# Altium integrated library Linear Technology Power Management System Supervisor, Monitor and Control.IntLib: 1611 symbols (part 36 of 100)
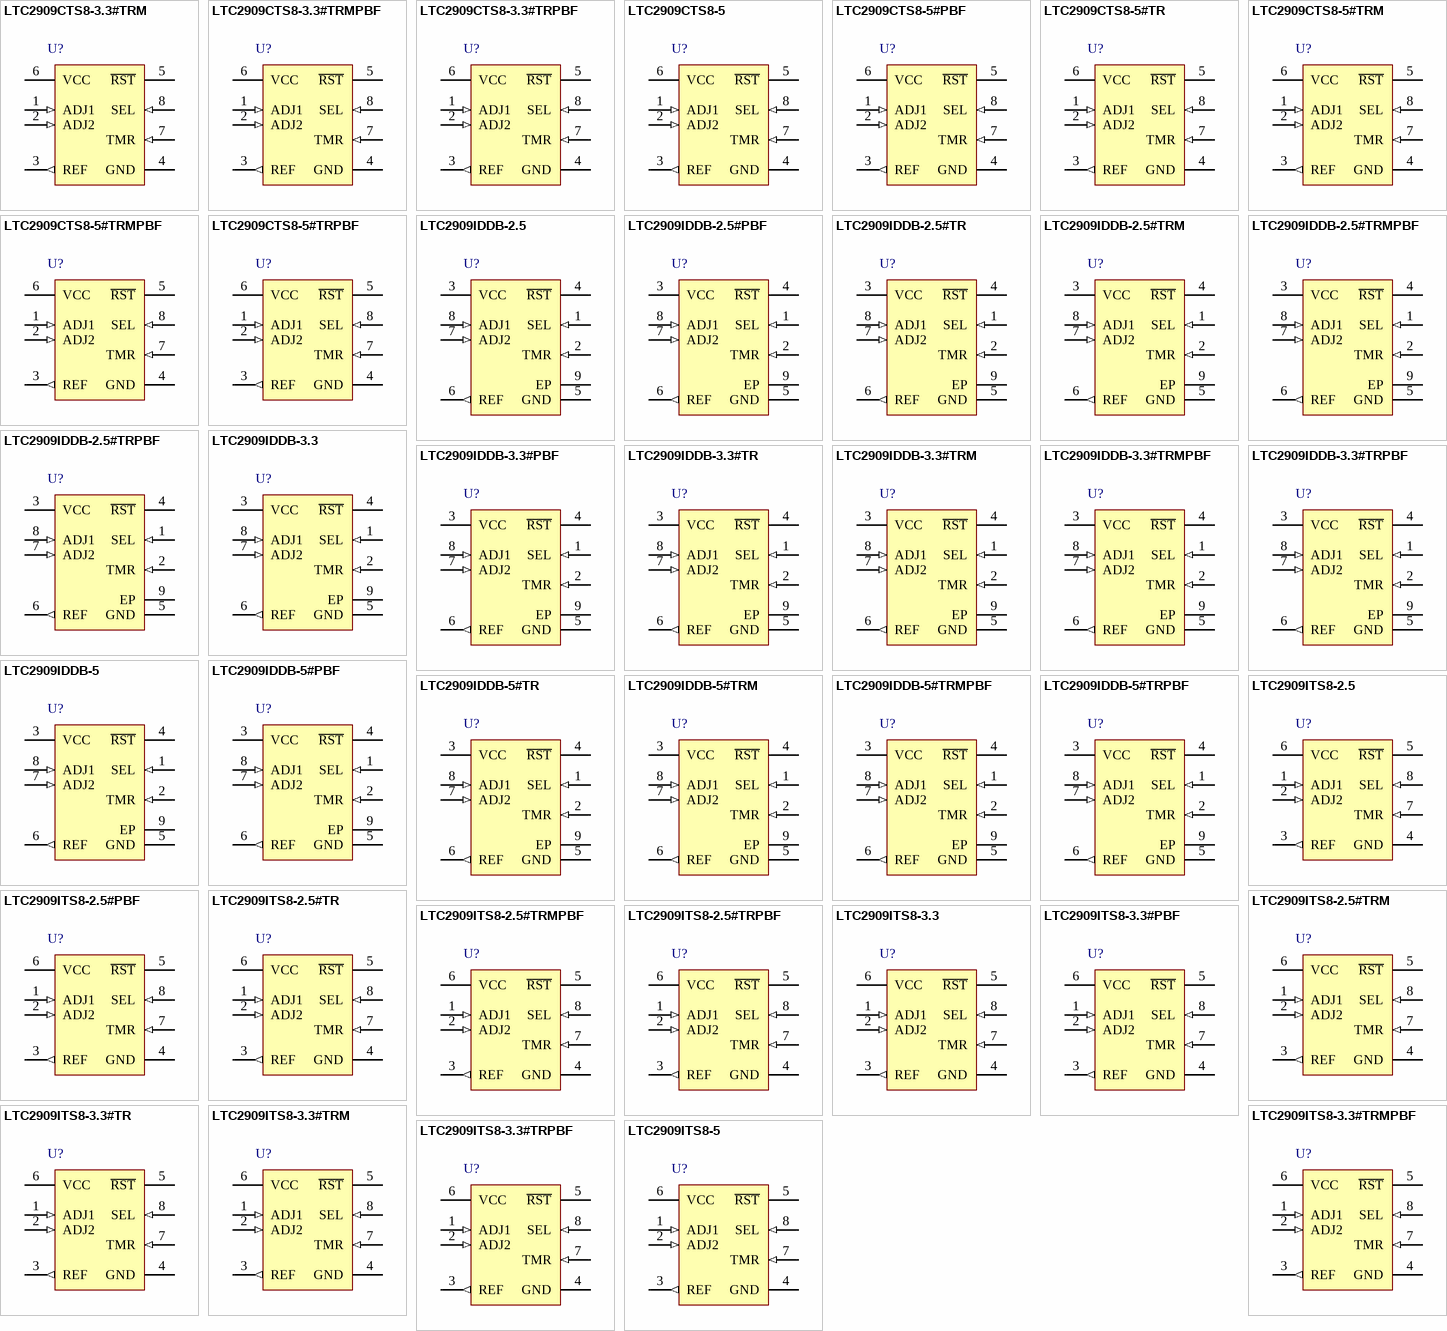
[diagram p80: symbols LTC2909CTS8-3.3#TRM to LTC2909ITS8-5]

## LTC2909ITS8-5
designator U?
Precision Triple / Dual Input UV, OV and Negative Voltage Monitor, 8-pin SOT23 (TS8-8), -40 to 85 degC; Manufacturer: Linear Technology; PartNumber: LTC2909ITS8-5; Number of Supplies(#): 3; DatasheetVersion: Rev. B; PackageVersion: Rev. A, 08/2010; PackageReference: TS8-8; PackageDescription: 8-Pin Plastic TSOT-23, Body 2.9 x 1.63 mm, Pitch 0.65 mm; RoHS: FALSE; Mounting Technology: Surface Mount; Code_JEDEC: MO-193; ComponentLink1Description: Manufacturer URL; ComponentLink1URL: http://www.linear.com/; ComponentLink2Description: Datasheet; ComponentLink2URL: http://cds.linear.com/docs/en/datasheet/2909fb.pdf; ComponentLink3Description: Package Specification; ComponentLink3URL: http://cds.linear.com/docs/en/packaging/SOT_8_05-08-1637.pdf
footprint LT-TS8-8-TSOT-23_V (SOT23, 8-Leads, Body 2.9x1.75mm, Pitch 0.65mm)
pins: 1 ADJ1 (in) "Adjustable Voltage Input 1. Input to voltage monitor comparator 1 (0.5V nominal threshold). The polarity of the input is selected by the state of the SEL pin (refer to Table 1). Tie to REF if unused (with SEL = VCC or Open).", 2 ADJ2 (in) "Adjustable Voltage Input 2. Input to voltage monitor comparator 2 (0.5V nominal threshold). The polarity of the input is selected by the state of the SEL pin (refer to Table 1). Tie to GND if unused (with SEL = GND or Open).", 3 REF (out) "Buffered Reference Output. 1V nominal reference used for the offset of negative-monitoring applications. The buffered reference can source and sink 1mA. The reference can drive a capacitive load of up to 1000pF. Larger (See Datasheet)", 4 GND (power) "Device Ground.", 5 ~{RST} (oc) "Open-Drain Inverted Reset Logic Output. Asserts low when any positive polarity input voltage is below threshold or any negative polarity input voltage is above threshold or VCC is below UVLO threshold. Held low for a timeout (See Datasheet)", 6 VCC (power) "Power Supply. Bypass this pin to ground with a 0.1uF (or greater) capacitor. Operates as a direct supply input for voltages up to 6V. Operates as a shunt regulator for supply voltages greater than 6V and should have a (See Datasheet)", 7 TMR (in) "Reset Timeout Control. Attach an external capacitor (CTMR) to GND to set a reset timeout of 9ms/nF. A low leakage ceramic capacitor is recommended for timer accuracy. Capacitors larger than 1uF (9 second timeout) are not (See Datasheet)", 8 SEL (in) "Input Polarity Select Three-State Input. Connect to VCC, GND or leave unconnected in open state to select one of three possible input polarity combinations (refer to Table 1)."

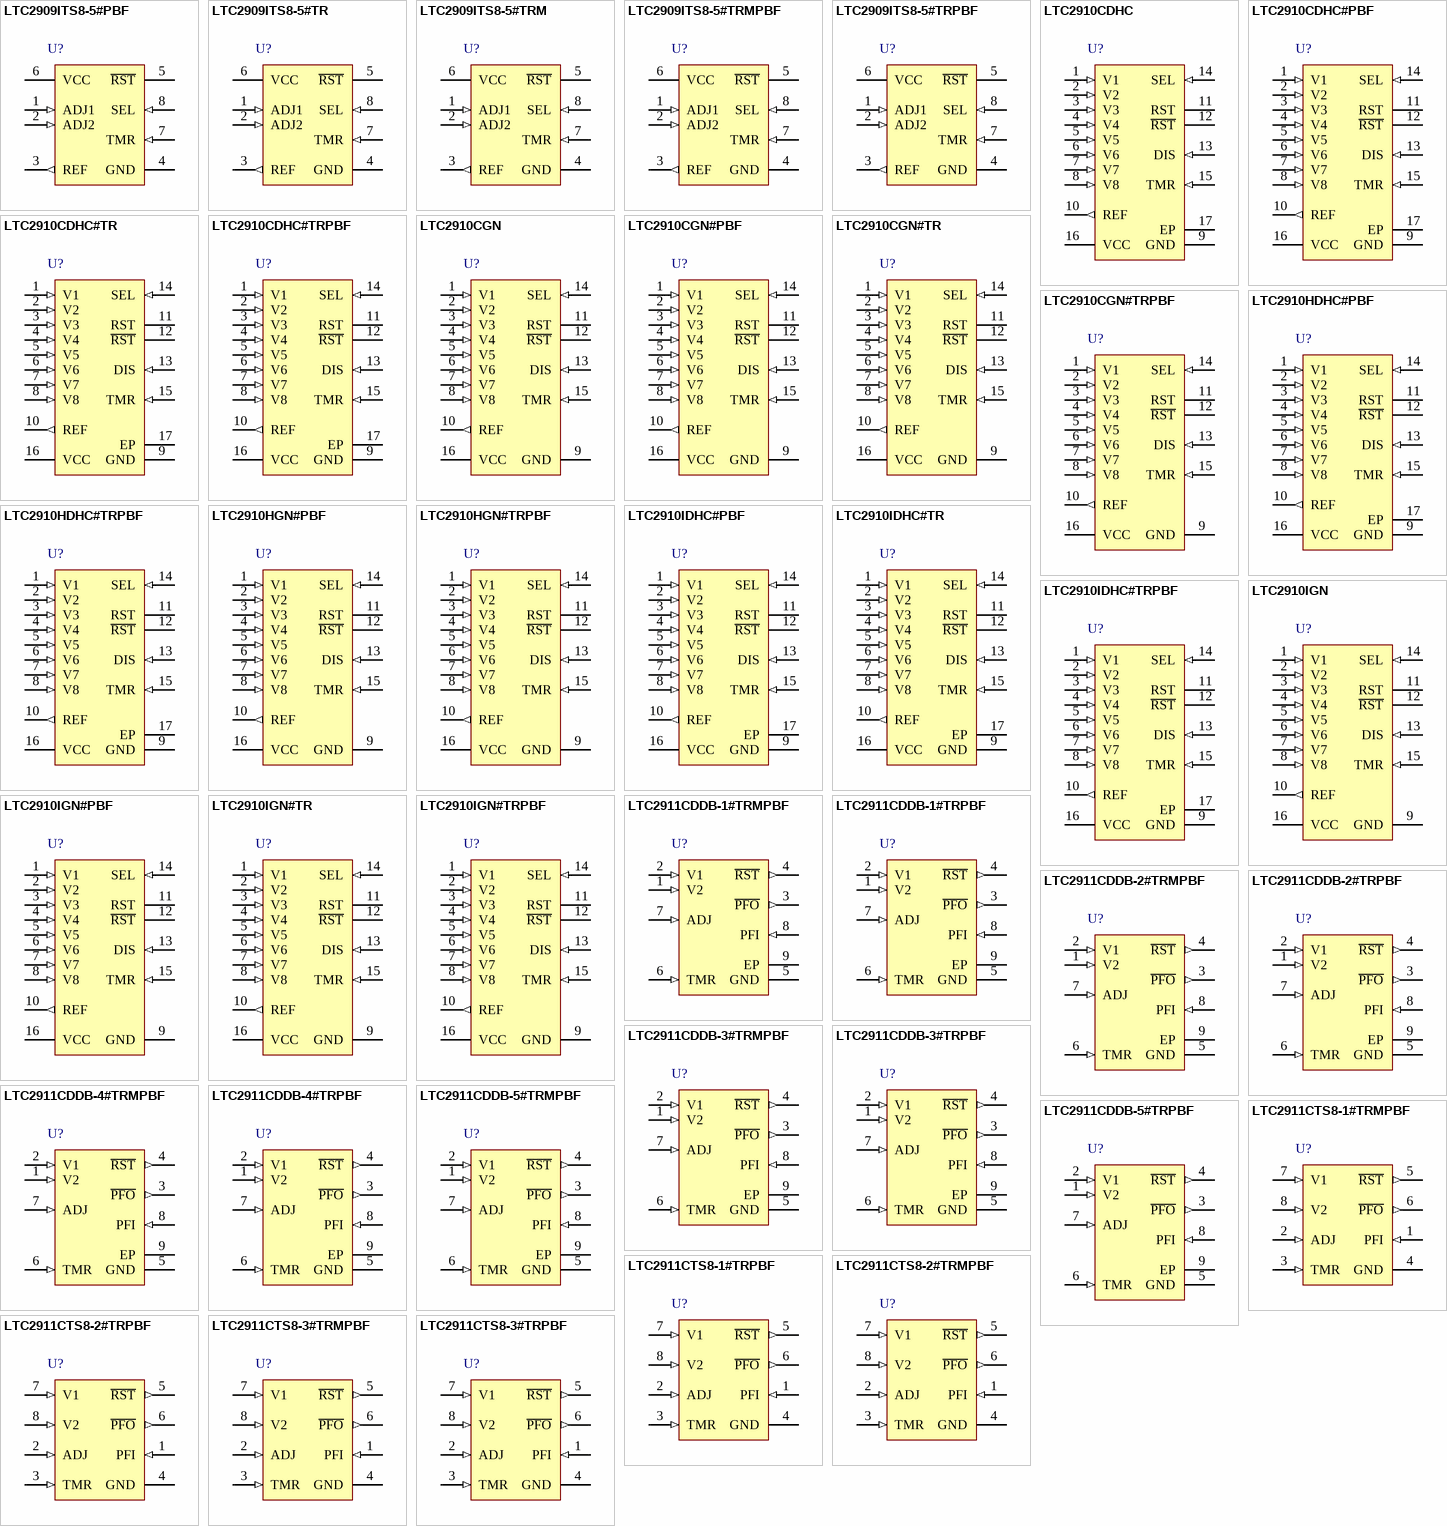
[diagram p18: symbols LTC2909ITS8-5#PBF to LTC2911CTS8-3#TRPBF]

## LTC2909ITS8-5#PBF
designator U?
Precision Triple / Dual Input UV, OV and Negative Voltage Monitor, 8-pin SOT23 (TS8-8), -40 to 85 degC, Pb-Free; Manufacturer: Linear Technology; PartNumber: LTC2909ITS8-5#PBF; Number of Supplies(#): 3; DatasheetVersion: Rev. B; PackageVersion: Rev. A, 08/2010; PackageReference: TS8-8; PackageDescription: 8-Pin Plastic TSOT-23, Body 2.9 x 1.63 mm, Pitch 0.65 mm; Supplier 1: Farnell; Supplier Part Number 1: 2295413; Supplier 2: Newark; Supplier Part Number 2: 69W6140; Supplier 3: Newark; Supplier Part Number 3: 25T5467; RoHS: TRUE; Mounting Technology: Surface Mount; Code_JEDEC: MO-193; ComponentLink1Description: Manufacturer URL; ComponentLink1URL: http://www.linear.com/; ComponentLink2Description: Datasheet; ComponentLink2URL: http://cds.linear.com/docs/en/datasheet/2909fb.pdf; ComponentLink3Description: Package Specification; ComponentLink3URL: http://cds.linear.com/docs/en/packaging/SOT_8_05-08-1637.pdf
footprint LT-TS8-8-TSOT-23_V (SOT23, 8-Leads, Body 2.9x1.75mm, Pitch 0.65mm)
pins: 1 ADJ1 (in) "Adjustable Voltage Input 1. Input to voltage monitor comparator 1 (0.5V nominal threshold). The polarity of the input is selected by the state of the SEL pin (refer to Table 1). Tie to REF if unused (with SEL = VCC or Open).", 2 ADJ2 (in) "Adjustable Voltage Input 2. Input to voltage monitor comparator 2 (0.5V nominal threshold). The polarity of the input is selected by the state of the SEL pin (refer to Table 1). Tie to GND if unused (with SEL = GND or Open).", 3 REF (out) "Buffered Reference Output. 1V nominal reference used for the offset of negative-monitoring applications. The buffered reference can source and sink 1mA. The reference can drive a capacitive load of up to 1000pF. Larger (See Datasheet)", 4 GND (power) "Device Ground.", 5 ~{RST} (oc) "Open-Drain Inverted Reset Logic Output. Asserts low when any positive polarity input voltage is below threshold or any negative polarity input voltage is above threshold or VCC is below UVLO threshold. Held low for a timeout (See Datasheet)", 6 VCC (power) "Power Supply. Bypass this pin to ground with a 0.1uF (or greater) capacitor. Operates as a direct supply input for voltages up to 6V. Operates as a shunt regulator for supply voltages greater than 6V and should have a (See Datasheet)", 7 TMR (in) "Reset Timeout Control. Attach an external capacitor (CTMR) to GND to set a reset timeout of 9ms/nF. A low leakage ceramic capacitor is recommended for timer accuracy. Capacitors larger than 1uF (9 second timeout) are not (See Datasheet)", 8 SEL (in) "Input Polarity Select Three-State Input. Connect to VCC, GND or leave unconnected in open state to select one of three possible input polarity combinations (refer to Table 1)."

## LTC2909ITS8-5#TR
designator U?
Precision Triple / Dual Input UV, OV and Negative Voltage Monitor, 8-pin SOT23 (TS8-8), -40 to 85 degC, Tape and Reel; Manufacturer: Linear Technology; PartNumber: LTC2909ITS8-5#TR; Number of Supplies(#): 3; DatasheetVersion: Rev. B; PackageVersion: Rev. A, 08/2010; PackageReference: TS8-8; PackageDescription: 8-Pin Plastic TSOT-23, Body 2.9 x 1.63 mm, Pitch 0.65 mm; Supplier 1: Newark; Supplier Part Number 1: 56M6815; Packing: Tape and Reel; RoHS: FALSE; Mounting Technology: Surface Mount; Code_JEDEC: MO-193; ComponentLink1Description: Manufacturer URL; ComponentLink1URL: http://www.linear.com/; ComponentLink2Description: Datasheet; ComponentLink2URL: http://cds.linear.com/docs/en/datasheet/2909fb.pdf; ComponentLink3Description: Package Specification; ComponentLink3URL: http://cds.linear.com/docs/en/packaging/SOT_8_05-08-1637.pdf
footprint LT-TS8-8-TSOT-23_V (SOT23, 8-Leads, Body 2.9x1.75mm, Pitch 0.65mm)
pins: 1 ADJ1 (in) "Adjustable Voltage Input 1. Input to voltage monitor comparator 1 (0.5V nominal threshold). The polarity of the input is selected by the state of the SEL pin (refer to Table 1). Tie to REF if unused (with SEL = VCC or Open).", 2 ADJ2 (in) "Adjustable Voltage Input 2. Input to voltage monitor comparator 2 (0.5V nominal threshold). The polarity of the input is selected by the state of the SEL pin (refer to Table 1). Tie to GND if unused (with SEL = GND or Open).", 3 REF (out) "Buffered Reference Output. 1V nominal reference used for the offset of negative-monitoring applications. The buffered reference can source and sink 1mA. The reference can drive a capacitive load of up to 1000pF. Larger (See Datasheet)", 4 GND (power) "Device Ground.", 5 ~{RST} (oc) "Open-Drain Inverted Reset Logic Output. Asserts low when any positive polarity input voltage is below threshold or any negative polarity input voltage is above threshold or VCC is below UVLO threshold. Held low for a timeout (See Datasheet)", 6 VCC (power) "Power Supply. Bypass this pin to ground with a 0.1uF (or greater) capacitor. Operates as a direct supply input for voltages up to 6V. Operates as a shunt regulator for supply voltages greater than 6V and should have a (See Datasheet)", 7 TMR (in) "Reset Timeout Control. Attach an external capacitor (CTMR) to GND to set a reset timeout of 9ms/nF. A low leakage ceramic capacitor is recommended for timer accuracy. Capacitors larger than 1uF (9 second timeout) are not (See Datasheet)", 8 SEL (in) "Input Polarity Select Three-State Input. Connect to VCC, GND or leave unconnected in open state to select one of three possible input polarity combinations (refer to Table 1)."

## LTC2909ITS8-5#TRM
designator U?
Precision Triple / Dual Input UV, OV and Negative Voltage Monitor, 8-pin SOT23 (TS8-8), -40 to 85 degC, Mini Tape and Reel; Manufacturer: Linear Technology; PartNumber: LTC2909ITS8-5#TRM; Number of Supplies(#): 3; DatasheetVersion: Rev. B; PackageVersion: Rev. A, 08/2010; PackageReference: TS8-8; PackageDescription: 8-Pin Plastic TSOT-23, Body 2.9 x 1.63 mm, Pitch 0.65 mm; Packing: Mini Tape and Reel; RoHS: FALSE; Mounting Technology: Surface Mount; Code_JEDEC: MO-193; ComponentLink1Description: Manufacturer URL; ComponentLink1URL: http://www.linear.com/; ComponentLink2Description: Datasheet; ComponentLink2URL: http://cds.linear.com/docs/en/datasheet/2909fb.pdf; ComponentLink3Description: Package Specification; ComponentLink3URL: http://cds.linear.com/docs/en/packaging/SOT_8_05-08-1637.pdf
footprint LT-TS8-8-TSOT-23_V (SOT23, 8-Leads, Body 2.9x1.75mm, Pitch 0.65mm)
pins: 1 ADJ1 (in) "Adjustable Voltage Input 1. Input to voltage monitor comparator 1 (0.5V nominal threshold). The polarity of the input is selected by the state of the SEL pin (refer to Table 1). Tie to REF if unused (with SEL = VCC or Open).", 2 ADJ2 (in) "Adjustable Voltage Input 2. Input to voltage monitor comparator 2 (0.5V nominal threshold). The polarity of the input is selected by the state of the SEL pin (refer to Table 1). Tie to GND if unused (with SEL = GND or Open).", 3 REF (out) "Buffered Reference Output. 1V nominal reference used for the offset of negative-monitoring applications. The buffered reference can source and sink 1mA. The reference can drive a capacitive load of up to 1000pF. Larger (See Datasheet)", 4 GND (power) "Device Ground.", 5 ~{RST} (oc) "Open-Drain Inverted Reset Logic Output. Asserts low when any positive polarity input voltage is below threshold or any negative polarity input voltage is above threshold or VCC is below UVLO threshold. Held low for a timeout (See Datasheet)", 6 VCC (power) "Power Supply. Bypass this pin to ground with a 0.1uF (or greater) capacitor. Operates as a direct supply input for voltages up to 6V. Operates as a shunt regulator for supply voltages greater than 6V and should have a (See Datasheet)", 7 TMR (in) "Reset Timeout Control. Attach an external capacitor (CTMR) to GND to set a reset timeout of 9ms/nF. A low leakage ceramic capacitor is recommended for timer accuracy. Capacitors larger than 1uF (9 second timeout) are not (See Datasheet)", 8 SEL (in) "Input Polarity Select Three-State Input. Connect to VCC, GND or leave unconnected in open state to select one of three possible input polarity combinations (refer to Table 1)."

## LTC2909ITS8-5#TRMPBF
designator U?
Precision Triple / Dual Input UV, OV and Negative Voltage Monitor, 8-pin SOT23 (TS8-8), -40 to 85 degC, Pb-Free, Mini Tape and Reel; Manufacturer: Linear Technology; PartNumber: LTC2909ITS8-5#TRMPBF; Number of Supplies(#): 3; DatasheetVersion: Rev. B; PackageVersion: Rev. A, 08/2010; PackageReference: TS8-8; PackageDescription: 8-Pin Plastic TSOT-23, Body 2.9 x 1.63 mm, Pitch 0.65 mm; Supplier 1: Digi-Key; Supplier Part Number 1: LTC2909ITS8-5#TRMPBFTR-ND; Supplier 2: Digi-Key; Supplier Part Number 2: LTC2909ITS8-5#TRMPBFCT-ND; Supplier 3: Digi-Key; Supplier Part Number 3: LTC2909ITS8-5#TRMPBFDKR-ND; Supplier 4: Newark; Supplier Part Number 4: 56M6817; Packing: Mini Tape and Reel; RoHS: TRUE; Mounting Technology: Surface Mount; Code_JEDEC: MO-193; ComponentLink1Description: Manufacturer URL; ComponentLink1URL: http://www.linear.com/; ComponentLink2Description: Datasheet; ComponentLink2URL: http://cds.linear.com/docs/en/datasheet/2909fb.pdf; ComponentLink3Description: Package Specification; ComponentLink3URL: http://cds.linear.com/docs/en/packaging/SOT_8_05-08-1637.pdf
footprint LT-TS8-8-TSOT-23_V (SOT23, 8-Leads, Body 2.9x1.75mm, Pitch 0.65mm)
pins: 1 ADJ1 (in) "Adjustable Voltage Input 1. Input to voltage monitor comparator 1 (0.5V nominal threshold). The polarity of the input is selected by the state of the SEL pin (refer to Table 1). Tie to REF if unused (with SEL = VCC or Open).", 2 ADJ2 (in) "Adjustable Voltage Input 2. Input to voltage monitor comparator 2 (0.5V nominal threshold). The polarity of the input is selected by the state of the SEL pin (refer to Table 1). Tie to GND if unused (with SEL = GND or Open).", 3 REF (out) "Buffered Reference Output. 1V nominal reference used for the offset of negative-monitoring applications. The buffered reference can source and sink 1mA. The reference can drive a capacitive load of up to 1000pF. Larger (See Datasheet)", 4 GND (power) "Device Ground.", 5 ~{RST} (oc) "Open-Drain Inverted Reset Logic Output. Asserts low when any positive polarity input voltage is below threshold or any negative polarity input voltage is above threshold or VCC is below UVLO threshold. Held low for a timeout (See Datasheet)", 6 VCC (power) "Power Supply. Bypass this pin to ground with a 0.1uF (or greater) capacitor. Operates as a direct supply input for voltages up to 6V. Operates as a shunt regulator for supply voltages greater than 6V and should have a (See Datasheet)", 7 TMR (in) "Reset Timeout Control. Attach an external capacitor (CTMR) to GND to set a reset timeout of 9ms/nF. A low leakage ceramic capacitor is recommended for timer accuracy. Capacitors larger than 1uF (9 second timeout) are not (See Datasheet)", 8 SEL (in) "Input Polarity Select Three-State Input. Connect to VCC, GND or leave unconnected in open state to select one of three possible input polarity combinations (refer to Table 1)."

## LTC2909ITS8-5#TRPBF
designator U?
Precision Triple / Dual Input UV, OV and Negative Voltage Monitor, 8-pin SOT23 (TS8-8), -40 to 85 degC, Pb-Free, Tape and Reel; Manufacturer: Linear Technology; PartNumber: LTC2909ITS8-5#TRPBF; Number of Supplies(#): 3; DatasheetVersion: Rev. B; PackageVersion: Rev. A, 08/2010; PackageReference: TS8-8; PackageDescription: 8-Pin Plastic TSOT-23, Body 2.9 x 1.63 mm, Pitch 0.65 mm; Supplier 1: Digi-Key; Supplier Part Number 1: LTC2909ITS8-5#TRPBF-ND; Packing: Tape and Reel; RoHS: TRUE; Mounting Technology: Surface Mount; Code_JEDEC: MO-193; ComponentLink1Description: Manufacturer URL; ComponentLink1URL: http://www.linear.com/; ComponentLink2Description: Datasheet; ComponentLink2URL: http://cds.linear.com/docs/en/datasheet/2909fb.pdf; ComponentLink3Description: Package Specification; ComponentLink3URL: http://cds.linear.com/docs/en/packaging/SOT_8_05-08-1637.pdf
footprint LT-TS8-8-TSOT-23_V (SOT23, 8-Leads, Body 2.9x1.75mm, Pitch 0.65mm)
pins: 1 ADJ1 (in) "Adjustable Voltage Input 1. Input to voltage monitor comparator 1 (0.5V nominal threshold). The polarity of the input is selected by the state of the SEL pin (refer to Table 1). Tie to REF if unused (with SEL = VCC or Open).", 2 ADJ2 (in) "Adjustable Voltage Input 2. Input to voltage monitor comparator 2 (0.5V nominal threshold). The polarity of the input is selected by the state of the SEL pin (refer to Table 1). Tie to GND if unused (with SEL = GND or Open).", 3 REF (out) "Buffered Reference Output. 1V nominal reference used for the offset of negative-monitoring applications. The buffered reference can source and sink 1mA. The reference can drive a capacitive load of up to 1000pF. Larger (See Datasheet)", 4 GND (power) "Device Ground.", 5 ~{RST} (oc) "Open-Drain Inverted Reset Logic Output. Asserts low when any positive polarity input voltage is below threshold or any negative polarity input voltage is above threshold or VCC is below UVLO threshold. Held low for a timeout (See Datasheet)", 6 VCC (power) "Power Supply. Bypass this pin to ground with a 0.1uF (or greater) capacitor. Operates as a direct supply input for voltages up to 6V. Operates as a shunt regulator for supply voltages greater than 6V and should have a (See Datasheet)", 7 TMR (in) "Reset Timeout Control. Attach an external capacitor (CTMR) to GND to set a reset timeout of 9ms/nF. A low leakage ceramic capacitor is recommended for timer accuracy. Capacitors larger than 1uF (9 second timeout) are not (See Datasheet)", 8 SEL (in) "Input Polarity Select Three-State Input. Connect to VCC, GND or leave unconnected in open state to select one of three possible input polarity combinations (refer to Table 1)."

## LTC2910CDHC
designator U?
Octal Positive / Negative Voltage Monitor, 16-pin SON (DHC-16), 0 to 70 degC; Manufacturer: Linear Technology; PartNumber: LTC2910CDHC; Number of Supplies(#): 8; DatasheetVersion: Rev. C; PackageVersion: Jun-10; PackageReference: DHC-16; PackageDescription: 16-Pin Plastic DFN, Body 5 x 3 mm, Pitch 0.5 mm; RoHS: FALSE; Mounting Technology: Surface Mount; Code_JEDEC: MO-229; ComponentLink1Description: Manufacturer URL; ComponentLink1URL: http://www.linear.com/; ComponentLink2Description: Datasheet; ComponentLink2URL: http://cds.linear.com/docs/en/datasheet/2910fc.pdf; ComponentLink3Description: Package Specification; ComponentLink3URL: http://cds.linear.com/docs/en/packaging/DFN_16_05-08-1706.pdf
footprint LT-DHC-16_V (SON, 16-Leads, Body 5x3mm, Pitch 0.5mm, Thermal Pad 4.4X1.65mm)
pins: 1 V1 (in) "Voltage Inputs 1 through 6. When the voltage on this pin is below 0.5V, a reset condition is triggered. Tie pin to VCC if unused.", 2 V2 (in) "Voltage Inputs 1 through 6. When the voltage on this pin is below 0.5V, a reset condition is triggered. Tie pin to VCC if unused.", 3 V3 (in) "Voltage Inputs 1 through 6. When the voltage on this pin is below 0.5V, a reset condition is triggered. Tie pin to VCC if unused.", 4 V4 (in) "Voltage Inputs 1 through 6. When the voltage on this pin is below 0.5V, a reset condition is triggered. Tie pin to VCC if unused.", 5 V5 (in) "Voltage Inputs 1 through 6. When the voltage on this pin is below 0.5V, a reset condition is triggered. Tie pin to VCC if unused.", 6 V6 (in) "Voltage Inputs 1 through 6. When the voltage on this pin is below 0.5V, a reset condition is triggered. Tie pin to VCC if unused.", 7 V7 (in) "Voltage Inputs 7 and 8. The polarity of the input is selected by the state of the SEL pin (refer to Table 1). When the monitored input is configured as a positive voltage, a reset condition is triggered when the pin is below (See Datasheet)", 8 V8 (in) "Voltage Inputs 7 and 8. The polarity of the input is selected by the state of the SEL pin (refer to Table 1). When the monitored input is configured as a positive voltage, a reset condition is triggered when the pin is below (See Datasheet)", 9 GND (power) "Device Ground", 10 REF (out) "Buffered Reference Output. 1V reference used for the offset of negative-monitoring applications. The buffered reference sources and sinks up to 1mA. The reference drives capacitive loads up to 1nF. Larger capacitive loads (See Datasheet)", 11 RST (oc) "Open-Drain Reset Logic Output. Asserts high when any positive polarity input voltage is below threshold or any negative polarity input voltage is above threshold. Held high for an adjustable delay time after all voltage (See Datasheet)", 12 ~{RST} (oc) "Open-Drain Inverted Reset Logic Output. Asserts low when any positive polarity input voltage is below threshold or any negative polarity input voltage is above threshold. Held low for an adjustable delay time after all (See Datasheet)", 13 DIS (in) "Output Disable Input. Disables the RST and R\S\T\ output pins. When DIS is pulled high, the RST and R\S\T\ pins are not asserted except during a UVLO condition. Pin has a weak (2uA) internal pull-down to GND. Leave pin open (See Datasheet)", 14 SEL (in) "Input Polarity Select Three-State Input. Connect to VCC, GND or leave unconnected in open state to select one of three possible input polarity combinations (refer to Table 1).", 15 TMR (in) "Reset Delay Timer. Attach an external capacitor (CTMR) of at least 10pF to GND to set a reset delay time of 9ms/nF. A 1nF capacitor will generate an 8.5ms reset delay time. Tie pin to VCC to bypass timer", 16 VCC (power) "Supply Voltage. Bypass this pin to GND with a 0.1uF (or greater) capacitor. Operates as a direct supply input for voltages up to 6V. Operates as a shunt regulator for supply voltages greater than 6V and must have a (See Datasheet)", 17 EP (power) "Exposed pad may be left open or connected to device ground."

## LTC2910CDHC#PBF
designator U?
Octal Positive / Negative Voltage Monitor, 16-pin SON (DHC-16), 0 to 70 degC, Pb-Free; Manufacturer: Linear Technology; PartNumber: LTC2910CDHC#PBF; Number of Supplies(#): 8; DatasheetVersion: Rev. C; PackageVersion: Jun-10; PackageReference: DHC-16; PackageDescription: 16-Pin Plastic DFN, Body 5 x 3 mm, Pitch 0.5 mm; Supplier 1: Digi-Key; Supplier Part Number 1: LTC2910CDHC#PBF-ND; Supplier 2: Farnell; Supplier Part Number 2: 2295414; Supplier 3: Newark; Supplier Part Number 3: 56M6820; RoHS: TRUE; Mounting Technology: Surface Mount; Code_JEDEC: MO-229; ComponentLink1Description: Manufacturer URL; ComponentLink1URL: http://www.linear.com/; ComponentLink2Description: Datasheet; ComponentLink2URL: http://cds.linear.com/docs/en/datasheet/2910fc.pdf; ComponentLink3Description: Package Specification; ComponentLink3URL: http://cds.linear.com/docs/en/packaging/DFN_16_05-08-1706.pdf
footprint LT-DHC-16_V (SON, 16-Leads, Body 5x3mm, Pitch 0.5mm, Thermal Pad 4.4X1.65mm)
pins: 1 V1 (in) "Voltage Inputs 1 through 6. When the voltage on this pin is below 0.5V, a reset condition is triggered. Tie pin to VCC if unused.", 2 V2 (in) "Voltage Inputs 1 through 6. When the voltage on this pin is below 0.5V, a reset condition is triggered. Tie pin to VCC if unused.", 3 V3 (in) "Voltage Inputs 1 through 6. When the voltage on this pin is below 0.5V, a reset condition is triggered. Tie pin to VCC if unused.", 4 V4 (in) "Voltage Inputs 1 through 6. When the voltage on this pin is below 0.5V, a reset condition is triggered. Tie pin to VCC if unused.", 5 V5 (in) "Voltage Inputs 1 through 6. When the voltage on this pin is below 0.5V, a reset condition is triggered. Tie pin to VCC if unused.", 6 V6 (in) "Voltage Inputs 1 through 6. When the voltage on this pin is below 0.5V, a reset condition is triggered. Tie pin to VCC if unused.", 7 V7 (in) "Voltage Inputs 7 and 8. The polarity of the input is selected by the state of the SEL pin (refer to Table 1). When the monitored input is configured as a positive voltage, a reset condition is triggered when the pin is below (See Datasheet)", 8 V8 (in) "Voltage Inputs 7 and 8. The polarity of the input is selected by the state of the SEL pin (refer to Table 1). When the monitored input is configured as a positive voltage, a reset condition is triggered when the pin is below (See Datasheet)", 9 GND (power) "Device Ground", 10 REF (out) "Buffered Reference Output. 1V reference used for the offset of negative-monitoring applications. The buffered reference sources and sinks up to 1mA. The reference drives capacitive loads up to 1nF. Larger capacitive loads (See Datasheet)", 11 RST (oc) "Open-Drain Reset Logic Output. Asserts high when any positive polarity input voltage is below threshold or any negative polarity input voltage is above threshold. Held high for an adjustable delay time after all voltage (See Datasheet)", 12 ~{RST} (oc) "Open-Drain Inverted Reset Logic Output. Asserts low when any positive polarity input voltage is below threshold or any negative polarity input voltage is above threshold. Held low for an adjustable delay time after all (See Datasheet)", 13 DIS (in) "Output Disable Input. Disables the RST and R\S\T\ output pins. When DIS is pulled high, the RST and R\S\T\ pins are not asserted except during a UVLO condition. Pin has a weak (2uA) internal pull-down to GND. Leave pin open (See Datasheet)", 14 SEL (in) "Input Polarity Select Three-State Input. Connect to VCC, GND or leave unconnected in open state to select one of three possible input polarity combinations (refer to Table 1).", 15 TMR (in) "Reset Delay Timer. Attach an external capacitor (CTMR) of at least 10pF to GND to set a reset delay time of 9ms/nF. A 1nF capacitor will generate an 8.5ms reset delay time. Tie pin to VCC to bypass timer", 16 VCC (power) "Supply Voltage. Bypass this pin to GND with a 0.1uF (or greater) capacitor. Operates as a direct supply input for voltages up to 6V. Operates as a shunt regulator for supply voltages greater than 6V and must have a (See Datasheet)", 17 EP (power) "Exposed pad may be left open or connected to device ground."

## LTC2910CDHC#TR
designator U?
Octal Positive / Negative Voltage Monitor, 16-pin SON (DHC-16), 0 to 70 degC, Tape and Reel; Manufacturer: Linear Technology; PartNumber: LTC2910CDHC#TR; Number of Supplies(#): 8; DatasheetVersion: Rev. C; PackageVersion: Jun-10; PackageReference: DHC-16; PackageDescription: 16-Pin Plastic DFN, Body 5 x 3 mm, Pitch 0.5 mm; Packing: Tape and Reel; RoHS: FALSE; Mounting Technology: Surface Mount; Code_JEDEC: MO-229; ComponentLink1Description: Manufacturer URL; ComponentLink1URL: http://www.linear.com/; ComponentLink2Description: Datasheet; ComponentLink2URL: http://cds.linear.com/docs/en/datasheet/2910fc.pdf; ComponentLink3Description: Package Specification; ComponentLink3URL: http://cds.linear.com/docs/en/packaging/DFN_16_05-08-1706.pdf
footprint LT-DHC-16_V (SON, 16-Leads, Body 5x3mm, Pitch 0.5mm, Thermal Pad 4.4X1.65mm)
pins: 1 V1 (in) "Voltage Inputs 1 through 6. When the voltage on this pin is below 0.5V, a reset condition is triggered. Tie pin to VCC if unused.", 2 V2 (in) "Voltage Inputs 1 through 6. When the voltage on this pin is below 0.5V, a reset condition is triggered. Tie pin to VCC if unused.", 3 V3 (in) "Voltage Inputs 1 through 6. When the voltage on this pin is below 0.5V, a reset condition is triggered. Tie pin to VCC if unused.", 4 V4 (in) "Voltage Inputs 1 through 6. When the voltage on this pin is below 0.5V, a reset condition is triggered. Tie pin to VCC if unused.", 5 V5 (in) "Voltage Inputs 1 through 6. When the voltage on this pin is below 0.5V, a reset condition is triggered. Tie pin to VCC if unused.", 6 V6 (in) "Voltage Inputs 1 through 6. When the voltage on this pin is below 0.5V, a reset condition is triggered. Tie pin to VCC if unused.", 7 V7 (in) "Voltage Inputs 7 and 8. The polarity of the input is selected by the state of the SEL pin (refer to Table 1). When the monitored input is configured as a positive voltage, a reset condition is triggered when the pin is below (See Datasheet)", 8 V8 (in) "Voltage Inputs 7 and 8. The polarity of the input is selected by the state of the SEL pin (refer to Table 1). When the monitored input is configured as a positive voltage, a reset condition is triggered when the pin is below (See Datasheet)", 9 GND (power) "Device Ground", 10 REF (out) "Buffered Reference Output. 1V reference used for the offset of negative-monitoring applications. The buffered reference sources and sinks up to 1mA. The reference drives capacitive loads up to 1nF. Larger capacitive loads (See Datasheet)", 11 RST (oc) "Open-Drain Reset Logic Output. Asserts high when any positive polarity input voltage is below threshold or any negative polarity input voltage is above threshold. Held high for an adjustable delay time after all voltage (See Datasheet)", 12 ~{RST} (oc) "Open-Drain Inverted Reset Logic Output. Asserts low when any positive polarity input voltage is below threshold or any negative polarity input voltage is above threshold. Held low for an adjustable delay time after all (See Datasheet)", 13 DIS (in) "Output Disable Input. Disables the RST and R\S\T\ output pins. When DIS is pulled high, the RST and R\S\T\ pins are not asserted except during a UVLO condition. Pin has a weak (2uA) internal pull-down to GND. Leave pin open (See Datasheet)", 14 SEL (in) "Input Polarity Select Three-State Input. Connect to VCC, GND or leave unconnected in open state to select one of three possible input polarity combinations (refer to Table 1).", 15 TMR (in) "Reset Delay Timer. Attach an external capacitor (CTMR) of at least 10pF to GND to set a reset delay time of 9ms/nF. A 1nF capacitor will generate an 8.5ms reset delay time. Tie pin to VCC to bypass timer", 16 VCC (power) "Supply Voltage. Bypass this pin to GND with a 0.1uF (or greater) capacitor. Operates as a direct supply input for voltages up to 6V. Operates as a shunt regulator for supply voltages greater than 6V and must have a (See Datasheet)", 17 EP (power) "Exposed pad may be left open or connected to device ground."

## LTC2910CDHC#TRPBF
designator U?
Octal Positive / Negative Voltage Monitor, 16-pin SON (DHC-16), 0 to 70 degC, Pb-Free, Tape and Reel; Manufacturer: Linear Technology; PartNumber: LTC2910CDHC#TRPBF; Number of Supplies(#): 8; DatasheetVersion: Rev. C; PackageVersion: Jun-10; PackageReference: DHC-16; PackageDescription: 16-Pin Plastic DFN, Body 5 x 3 mm, Pitch 0.5 mm; Supplier 1: Digi-Key; Supplier Part Number 1: LTC2910CDHC#TRPBF-ND; Supplier 2: Newark; Supplier Part Number 2: 56M6822; Packing: Tape and Reel; RoHS: TRUE; Mounting Technology: Surface Mount; Code_JEDEC: MO-229; ComponentLink1Description: Manufacturer URL; ComponentLink1URL: http://www.linear.com/; ComponentLink2Description: Datasheet; ComponentLink2URL: http://cds.linear.com/docs/en/datasheet/2910fc.pdf; ComponentLink3Description: Package Specification; ComponentLink3URL: http://cds.linear.com/docs/en/packaging/DFN_16_05-08-1706.pdf
footprint LT-DHC-16_V (SON, 16-Leads, Body 5x3mm, Pitch 0.5mm, Thermal Pad 4.4X1.65mm)
pins: 1 V1 (in) "Voltage Inputs 1 through 6. When the voltage on this pin is below 0.5V, a reset condition is triggered. Tie pin to VCC if unused.", 2 V2 (in) "Voltage Inputs 1 through 6. When the voltage on this pin is below 0.5V, a reset condition is triggered. Tie pin to VCC if unused.", 3 V3 (in) "Voltage Inputs 1 through 6. When the voltage on this pin is below 0.5V, a reset condition is triggered. Tie pin to VCC if unused.", 4 V4 (in) "Voltage Inputs 1 through 6. When the voltage on this pin is below 0.5V, a reset condition is triggered. Tie pin to VCC if unused.", 5 V5 (in) "Voltage Inputs 1 through 6. When the voltage on this pin is below 0.5V, a reset condition is triggered. Tie pin to VCC if unused.", 6 V6 (in) "Voltage Inputs 1 through 6. When the voltage on this pin is below 0.5V, a reset condition is triggered. Tie pin to VCC if unused.", 7 V7 (in) "Voltage Inputs 7 and 8. The polarity of the input is selected by the state of the SEL pin (refer to Table 1). When the monitored input is configured as a positive voltage, a reset condition is triggered when the pin is below (See Datasheet)", 8 V8 (in) "Voltage Inputs 7 and 8. The polarity of the input is selected by the state of the SEL pin (refer to Table 1). When the monitored input is configured as a positive voltage, a reset condition is triggered when the pin is below (See Datasheet)", 9 GND (power) "Device Ground", 10 REF (out) "Buffered Reference Output. 1V reference used for the offset of negative-monitoring applications. The buffered reference sources and sinks up to 1mA. The reference drives capacitive loads up to 1nF. Larger capacitive loads (See Datasheet)", 11 RST (oc) "Open-Drain Reset Logic Output. Asserts high when any positive polarity input voltage is below threshold or any negative polarity input voltage is above threshold. Held high for an adjustable delay time after all voltage (See Datasheet)", 12 ~{RST} (oc) "Open-Drain Inverted Reset Logic Output. Asserts low when any positive polarity input voltage is below threshold or any negative polarity input voltage is above threshold. Held low for an adjustable delay time after all (See Datasheet)", 13 DIS (in) "Output Disable Input. Disables the RST and R\S\T\ output pins. When DIS is pulled high, the RST and R\S\T\ pins are not asserted except during a UVLO condition. Pin has a weak (2uA) internal pull-down to GND. Leave pin open (See Datasheet)", 14 SEL (in) "Input Polarity Select Three-State Input. Connect to VCC, GND or leave unconnected in open state to select one of three possible input polarity combinations (refer to Table 1).", 15 TMR (in) "Reset Delay Timer. Attach an external capacitor (CTMR) of at least 10pF to GND to set a reset delay time of 9ms/nF. A 1nF capacitor will generate an 8.5ms reset delay time. Tie pin to VCC to bypass timer", 16 VCC (power) "Supply Voltage. Bypass this pin to GND with a 0.1uF (or greater) capacitor. Operates as a direct supply input for voltages up to 6V. Operates as a shunt regulator for supply voltages greater than 6V and must have a (See Datasheet)", 17 EP (power) "Exposed pad may be left open or connected to device ground."

## LTC2910CGN
designator U?
Octal Positive / Negative Voltage Monitor, 16-pin SOP (GN-16), 0 to 70 degC; Manufacturer: Linear Technology; PartNumber: LTC2910CGN; Number of Supplies(#): 8; DatasheetVersion: Rev. C; PackageVersion: Rev. B, 03/2012; PackageReference: GN-16; PackageDescription: 16-Pin Plastic SSOP, Body 4.9 x 3.9 mm, Pitch 0.635 mm; RoHS: FALSE; Mounting Technology: Surface Mount; ComponentLink1Description: Manufacturer URL; ComponentLink1URL: http://www.linear.com/; ComponentLink2Description: Datasheet; ComponentLink2URL: http://cds.linear.com/docs/en/datasheet/2910fc.pdf; ComponentLink3Description: Package Specification; ComponentLink3URL: http://cds.linear.com/docs/en/packaging/05081641_B_GN16.pdf
footprint LT-GN-16_N (SOP, 16-Leads, Body 5x4mm, Pitch 0.635mm, IPC Medium Density)
footprint LT-GN-16_L (SOP, 16-Leads, Body 5x4mm, Pitch 0.635mm, IPC High Density)
footprint LT-GN-16_M (SOP, 16-Leads, Body 5x4mm, Pitch 0.635mm, IPC Low Density)
pins: 1 V1 (in) "Voltage Inputs 1 through 6. When the voltage on this pin is below 0.5V, a reset condition is triggered. Tie pin to VCC if unused.", 2 V2 (in) "Voltage Inputs 1 through 6. When the voltage on this pin is below 0.5V, a reset condition is triggered. Tie pin to VCC if unused.", 3 V3 (in) "Voltage Inputs 1 through 6. When the voltage on this pin is below 0.5V, a reset condition is triggered. Tie pin to VCC if unused.", 4 V4 (in) "Voltage Inputs 1 through 6. When the voltage on this pin is below 0.5V, a reset condition is triggered. Tie pin to VCC if unused.", 5 V5 (in) "Voltage Inputs 1 through 6. When the voltage on this pin is below 0.5V, a reset condition is triggered. Tie pin to VCC if unused.", 6 V6 (in) "Voltage Inputs 1 through 6. When the voltage on this pin is below 0.5V, a reset condition is triggered. Tie pin to VCC if unused.", 7 V7 (in) "Voltage Inputs 7 and 8. The polarity of the input is selected by the state of the SEL pin (refer to Table 1). When the monitored input is configured as a positive voltage, a reset condition is triggered when the pin is below (See Datasheet)", 8 V8 (in) "Voltage Inputs 7 and 8. The polarity of the input is selected by the state of the SEL pin (refer to Table 1). When the monitored input is configured as a positive voltage, a reset condition is triggered when the pin is below (See Datasheet)", 9 GND (power) "Device Ground", 10 REF (out) "Buffered Reference Output. 1V reference used for the offset of negative-monitoring applications. The buffered reference sources and sinks up to 1mA. The reference drives capacitive loads up to 1nF. Larger capacitive loads (See Datasheet)", 11 RST (oc) "Open-Drain Reset Logic Output. Asserts high when any positive polarity input voltage is below threshold or any negative polarity input voltage is above threshold. Held high for an adjustable delay time after all voltage (See Datasheet)", 12 ~{RST} (oc) "Open-Drain Inverted Reset Logic Output. Asserts low when any positive polarity input voltage is below threshold or any negative polarity input voltage is above threshold. Held low for an adjustable delay time after all (See Datasheet)", 13 DIS (in) "Output Disable Input. Disables the RST and R\S\T\ output pins. When DIS is pulled high, the RST and R\S\T\ pins are not asserted except during a UVLO condition. Pin has a weak (2uA) internal pull-down to GND. Leave pin open (See Datasheet)", 14 SEL (in) "Input Polarity Select Three-State Input. Connect to VCC, GND or leave unconnected in open state to select one of three possible input polarity combinations (refer to Table 1).", 15 TMR (in) "Reset Delay Timer. Attach an external capacitor (CTMR) of at least 10pF to GND to set a reset delay time of 9ms/nF. A 1nF capacitor will generate an 8.5ms reset delay time. Tie pin to VCC to bypass timer", 16 VCC (power) "Supply Voltage. Bypass this pin to GND with a 0.1uF (or greater) capacitor. Operates as a direct supply input for voltages up to 6V. Operates as a shunt regulator for supply voltages greater than 6V and must have a (See Datasheet)"

## LTC2910CGN#PBF
designator U?
Octal Positive / Negative Voltage Monitor, 16-pin SOP (GN-16), 0 to 70 degC, Pb-Free; Manufacturer: Linear Technology; PartNumber: LTC2910CGN#PBF; Number of Supplies(#): 8; DatasheetVersion: Rev. C; PackageVersion: Rev. B, 03/2012; PackageReference: GN-16; PackageDescription: 16-Pin Plastic SSOP, Body 4.9 x 3.9 mm, Pitch 0.635 mm; Supplier 1: Digi-Key; Supplier Part Number 1: LTC2910CGN#PBF-ND; Supplier 2: Farnell; Supplier Part Number 2: 2295415; Supplier 3: Newark; Supplier Part Number 3: 56M6824; RoHS: TRUE; Mounting Technology: Surface Mount; ComponentLink1Description: Manufacturer URL; ComponentLink1URL: http://www.linear.com/; ComponentLink2Description: Datasheet; ComponentLink2URL: http://cds.linear.com/docs/en/datasheet/2910fc.pdf; ComponentLink3Description: Package Specification; ComponentLink3URL: http://cds.linear.com/docs/en/packaging/05081641_B_GN16.pdf
footprint LT-GN-16_N (SOP, 16-Leads, Body 5x4mm, Pitch 0.635mm, IPC Medium Density)
footprint LT-GN-16_L (SOP, 16-Leads, Body 5x4mm, Pitch 0.635mm, IPC High Density)
footprint LT-GN-16_M (SOP, 16-Leads, Body 5x4mm, Pitch 0.635mm, IPC Low Density)
pins: 1 V1 (in) "Voltage Inputs 1 through 6. When the voltage on this pin is below 0.5V, a reset condition is triggered. Tie pin to VCC if unused.", 2 V2 (in) "Voltage Inputs 1 through 6. When the voltage on this pin is below 0.5V, a reset condition is triggered. Tie pin to VCC if unused.", 3 V3 (in) "Voltage Inputs 1 through 6. When the voltage on this pin is below 0.5V, a reset condition is triggered. Tie pin to VCC if unused.", 4 V4 (in) "Voltage Inputs 1 through 6. When the voltage on this pin is below 0.5V, a reset condition is triggered. Tie pin to VCC if unused.", 5 V5 (in) "Voltage Inputs 1 through 6. When the voltage on this pin is below 0.5V, a reset condition is triggered. Tie pin to VCC if unused.", 6 V6 (in) "Voltage Inputs 1 through 6. When the voltage on this pin is below 0.5V, a reset condition is triggered. Tie pin to VCC if unused.", 7 V7 (in) "Voltage Inputs 7 and 8. The polarity of the input is selected by the state of the SEL pin (refer to Table 1). When the monitored input is configured as a positive voltage, a reset condition is triggered when the pin is below (See Datasheet)", 8 V8 (in) "Voltage Inputs 7 and 8. The polarity of the input is selected by the state of the SEL pin (refer to Table 1). When the monitored input is configured as a positive voltage, a reset condition is triggered when the pin is below (See Datasheet)", 9 GND (power) "Device Ground", 10 REF (out) "Buffered Reference Output. 1V reference used for the offset of negative-monitoring applications. The buffered reference sources and sinks up to 1mA. The reference drives capacitive loads up to 1nF. Larger capacitive loads (See Datasheet)", 11 RST (oc) "Open-Drain Reset Logic Output. Asserts high when any positive polarity input voltage is below threshold or any negative polarity input voltage is above threshold. Held high for an adjustable delay time after all voltage (See Datasheet)", 12 ~{RST} (oc) "Open-Drain Inverted Reset Logic Output. Asserts low when any positive polarity input voltage is below threshold or any negative polarity input voltage is above threshold. Held low for an adjustable delay time after all (See Datasheet)", 13 DIS (in) "Output Disable Input. Disables the RST and R\S\T\ output pins. When DIS is pulled high, the RST and R\S\T\ pins are not asserted except during a UVLO condition. Pin has a weak (2uA) internal pull-down to GND. Leave pin open (See Datasheet)", 14 SEL (in) "Input Polarity Select Three-State Input. Connect to VCC, GND or leave unconnected in open state to select one of three possible input polarity combinations (refer to Table 1).", 15 TMR (in) "Reset Delay Timer. Attach an external capacitor (CTMR) of at least 10pF to GND to set a reset delay time of 9ms/nF. A 1nF capacitor will generate an 8.5ms reset delay time. Tie pin to VCC to bypass timer", 16 VCC (power) "Supply Voltage. Bypass this pin to GND with a 0.1uF (or greater) capacitor. Operates as a direct supply input for voltages up to 6V. Operates as a shunt regulator for supply voltages greater than 6V and must have a (See Datasheet)"

## LTC2910CGN#TR
designator U?
Octal Positive / Negative Voltage Monitor, 16-pin SOP (GN-16), 0 to 70 degC, Tape and Reel; Manufacturer: Linear Technology; PartNumber: LTC2910CGN#TR; Number of Supplies(#): 8; DatasheetVersion: Rev. C; PackageVersion: Rev. B, 03/2012; PackageReference: GN-16; PackageDescription: 16-Pin Plastic SSOP, Body 4.9 x 3.9 mm, Pitch 0.635 mm; Packing: Tape and Reel; RoHS: FALSE; Mounting Technology: Surface Mount; ComponentLink1Description: Manufacturer URL; ComponentLink1URL: http://www.linear.com/; ComponentLink2Description: Datasheet; ComponentLink2URL: http://cds.linear.com/docs/en/datasheet/2910fc.pdf; ComponentLink3Description: Package Specification; ComponentLink3URL: http://cds.linear.com/docs/en/packaging/05081641_B_GN16.pdf
footprint LT-GN-16_N (SOP, 16-Leads, Body 5x4mm, Pitch 0.635mm, IPC Medium Density)
footprint LT-GN-16_L (SOP, 16-Leads, Body 5x4mm, Pitch 0.635mm, IPC High Density)
footprint LT-GN-16_M (SOP, 16-Leads, Body 5x4mm, Pitch 0.635mm, IPC Low Density)
pins: 1 V1 (in) "Voltage Inputs 1 through 6. When the voltage on this pin is below 0.5V, a reset condition is triggered. Tie pin to VCC if unused.", 2 V2 (in) "Voltage Inputs 1 through 6. When the voltage on this pin is below 0.5V, a reset condition is triggered. Tie pin to VCC if unused.", 3 V3 (in) "Voltage Inputs 1 through 6. When the voltage on this pin is below 0.5V, a reset condition is triggered. Tie pin to VCC if unused.", 4 V4 (in) "Voltage Inputs 1 through 6. When the voltage on this pin is below 0.5V, a reset condition is triggered. Tie pin to VCC if unused.", 5 V5 (in) "Voltage Inputs 1 through 6. When the voltage on this pin is below 0.5V, a reset condition is triggered. Tie pin to VCC if unused.", 6 V6 (in) "Voltage Inputs 1 through 6. When the voltage on this pin is below 0.5V, a reset condition is triggered. Tie pin to VCC if unused.", 7 V7 (in) "Voltage Inputs 7 and 8. The polarity of the input is selected by the state of the SEL pin (refer to Table 1). When the monitored input is configured as a positive voltage, a reset condition is triggered when the pin is below (See Datasheet)", 8 V8 (in) "Voltage Inputs 7 and 8. The polarity of the input is selected by the state of the SEL pin (refer to Table 1). When the monitored input is configured as a positive voltage, a reset condition is triggered when the pin is below (See Datasheet)", 9 GND (power) "Device Ground", 10 REF (out) "Buffered Reference Output. 1V reference used for the offset of negative-monitoring applications. The buffered reference sources and sinks up to 1mA. The reference drives capacitive loads up to 1nF. Larger capacitive loads (See Datasheet)", 11 RST (oc) "Open-Drain Reset Logic Output. Asserts high when any positive polarity input voltage is below threshold or any negative polarity input voltage is above threshold. Held high for an adjustable delay time after all voltage (See Datasheet)", 12 ~{RST} (oc) "Open-Drain Inverted Reset Logic Output. Asserts low when any positive polarity input voltage is below threshold or any negative polarity input voltage is above threshold. Held low for an adjustable delay time after all (See Datasheet)", 13 DIS (in) "Output Disable Input. Disables the RST and R\S\T\ output pins. When DIS is pulled high, the RST and R\S\T\ pins are not asserted except during a UVLO condition. Pin has a weak (2uA) internal pull-down to GND. Leave pin open (See Datasheet)", 14 SEL (in) "Input Polarity Select Three-State Input. Connect to VCC, GND or leave unconnected in open state to select one of three possible input polarity combinations (refer to Table 1).", 15 TMR (in) "Reset Delay Timer. Attach an external capacitor (CTMR) of at least 10pF to GND to set a reset delay time of 9ms/nF. A 1nF capacitor will generate an 8.5ms reset delay time. Tie pin to VCC to bypass timer", 16 VCC (power) "Supply Voltage. Bypass this pin to GND with a 0.1uF (or greater) capacitor. Operates as a direct supply input for voltages up to 6V. Operates as a shunt regulator for supply voltages greater than 6V and must have a (See Datasheet)"

## LTC2910CGN#TRPBF
designator U?
Octal Positive / Negative Voltage Monitor, 16-pin SOP (GN-16), 0 to 70 degC, Pb-Free, Tape and Reel; Manufacturer: Linear Technology; PartNumber: LTC2910CGN#TRPBF; Number of Supplies(#): 8; DatasheetVersion: Rev. C; PackageVersion: Rev. B, 03/2012; PackageReference: GN-16; PackageDescription: 16-Pin Plastic SSOP, Body 4.9 x 3.9 mm, Pitch 0.635 mm; Supplier 1: Digi-Key; Supplier Part Number 1: LTC2910CGN#TRPBF-ND; Supplier 2: Newark; Supplier Part Number 2: 56M6826; Packing: Tape and Reel; RoHS: TRUE; Mounting Technology: Surface Mount; ComponentLink1Description: Manufacturer URL; ComponentLink1URL: http://www.linear.com/; ComponentLink2Description: Datasheet; ComponentLink2URL: http://cds.linear.com/docs/en/datasheet/2910fc.pdf; ComponentLink3Description: Package Specification; ComponentLink3URL: http://cds.linear.com/docs/en/packaging/05081641_B_GN16.pdf
footprint LT-GN-16_N (SOP, 16-Leads, Body 5x4mm, Pitch 0.635mm, IPC Medium Density)
footprint LT-GN-16_L (SOP, 16-Leads, Body 5x4mm, Pitch 0.635mm, IPC High Density)
footprint LT-GN-16_M (SOP, 16-Leads, Body 5x4mm, Pitch 0.635mm, IPC Low Density)
pins: 1 V1 (in) "Voltage Inputs 1 through 6. When the voltage on this pin is below 0.5V, a reset condition is triggered. Tie pin to VCC if unused.", 2 V2 (in) "Voltage Inputs 1 through 6. When the voltage on this pin is below 0.5V, a reset condition is triggered. Tie pin to VCC if unused.", 3 V3 (in) "Voltage Inputs 1 through 6. When the voltage on this pin is below 0.5V, a reset condition is triggered. Tie pin to VCC if unused.", 4 V4 (in) "Voltage Inputs 1 through 6. When the voltage on this pin is below 0.5V, a reset condition is triggered. Tie pin to VCC if unused.", 5 V5 (in) "Voltage Inputs 1 through 6. When the voltage on this pin is below 0.5V, a reset condition is triggered. Tie pin to VCC if unused.", 6 V6 (in) "Voltage Inputs 1 through 6. When the voltage on this pin is below 0.5V, a reset condition is triggered. Tie pin to VCC if unused.", 7 V7 (in) "Voltage Inputs 7 and 8. The polarity of the input is selected by the state of the SEL pin (refer to Table 1). When the monitored input is configured as a positive voltage, a reset condition is triggered when the pin is below (See Datasheet)", 8 V8 (in) "Voltage Inputs 7 and 8. The polarity of the input is selected by the state of the SEL pin (refer to Table 1). When the monitored input is configured as a positive voltage, a reset condition is triggered when the pin is below (See Datasheet)", 9 GND (power) "Device Ground", 10 REF (out) "Buffered Reference Output. 1V reference used for the offset of negative-monitoring applications. The buffered reference sources and sinks up to 1mA. The reference drives capacitive loads up to 1nF. Larger capacitive loads (See Datasheet)", 11 RST (oc) "Open-Drain Reset Logic Output. Asserts high when any positive polarity input voltage is below threshold or any negative polarity input voltage is above threshold. Held high for an adjustable delay time after all voltage (See Datasheet)", 12 ~{RST} (oc) "Open-Drain Inverted Reset Logic Output. Asserts low when any positive polarity input voltage is below threshold or any negative polarity input voltage is above threshold. Held low for an adjustable delay time after all (See Datasheet)", 13 DIS (in) "Output Disable Input. Disables the RST and R\S\T\ output pins. When DIS is pulled high, the RST and R\S\T\ pins are not asserted except during a UVLO condition. Pin has a weak (2uA) internal pull-down to GND. Leave pin open (See Datasheet)", 14 SEL (in) "Input Polarity Select Three-State Input. Connect to VCC, GND or leave unconnected in open state to select one of three possible input polarity combinations (refer to Table 1).", 15 TMR (in) "Reset Delay Timer. Attach an external capacitor (CTMR) of at least 10pF to GND to set a reset delay time of 9ms/nF. A 1nF capacitor will generate an 8.5ms reset delay time. Tie pin to VCC to bypass timer", 16 VCC (power) "Supply Voltage. Bypass this pin to GND with a 0.1uF (or greater) capacitor. Operates as a direct supply input for voltages up to 6V. Operates as a shunt regulator for supply voltages greater than 6V and must have a (See Datasheet)"